# Altium schematic symbol library Analog_Devices_ADP3338AKCZ_3_3RL7.SchLib: 1 symbol
Pins are listed as number, name and electrical type; pins without a type are passive.

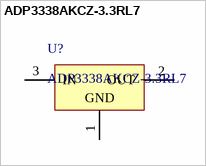
[diagram p0: symbol ADP3338AKCZ-3.3RL7]

## ADP3338AKCZ-3.3RL7
designator U?
High Accuracy, Ultralow IQ, 1 A, anyCAP(R) Low Dropout Regulator, 2.7 to 8 V Vin, 3.3 V Vout, Industrial, 3-pin SOT223 (KC-3), Reel; Manufacturer: Analog Devices; Vin (max) (V): 8; Preset Vout Values (V): 3.3; Vin (min) (V): 2.7; Iout max: 1A; Supply Current IGND @ Small Load: 110uA; ComponentLink4Description: URL Link1; PartNumber: ADP3338AKCZ-3.3RL7; ComponentLink1Description: Manufacturer URL; ComponentLink2Description: Datasheet; DatasheetVersion: Rev. B; ComponentLink3URL: http:/www.analog.com/static/imported-files/packages/PKG_PDF/SOT_223(KC)/KC_3.pdf; ComponentLink1URL: http://www.analog.com/en/index.html; Code_JEDEC: TO-261-AA; Packing: Reel; ComponentLink4URL: Product URL:http://www.analog.com/en/ADP3338/productSearch.html; ComponentLink2URL: http://www.analog.com/static/imported-files/data_sheets/ADP3338.pdf; ComponentLink3Description: Package Specification; PackageVersion: 11-20-2012-B, 11/2012; Mounting Technology: Surface Mount; PackageReference: KC-3; PackageDescription: 3-Pin Small Outline Transistor Package, Body 3.5 x 6.5 mm, Pitch 2.3 mm
footprint ADI-KC-3_L
footprint ADI-KC-3_N
footprint ADI-KC-3_M
pins: 1 GND (power) "Ground Pin.", 2 OUT (power) "Regulator Output. Bypass to ground with a 1 uF or larger capacitor.", 3 IN (power) "Regulator Input. Bypass to ground with a 1 uF or larger capacitor."